# EAGLE library part VRE305 (library ICs)
Series Voltage Reference IC ±0.01% 10mA 8-DIP
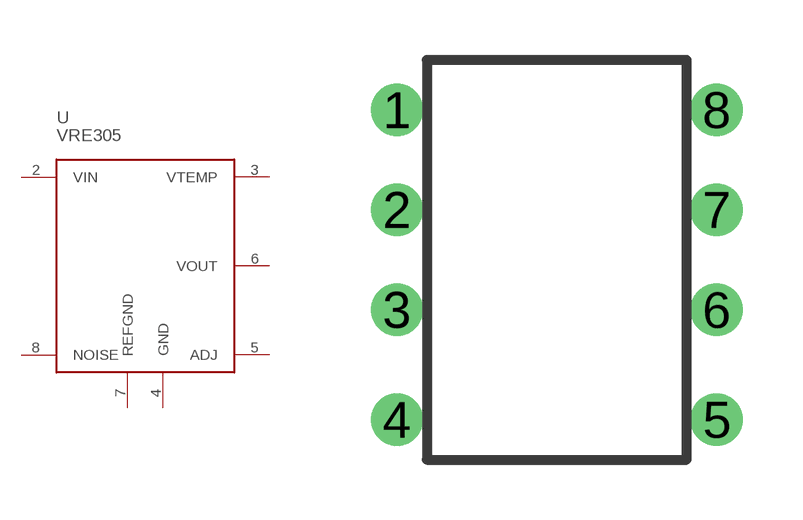
[diagram p224: symbol with the pads of DIP8; footprint DIP8]

Designator prefix U

## VRE305 (DIGIKEY: 598-1939-ND; HEIGHT: 3.5; PRICE_PER: 57.76; VALUE: VRE305)  [DIP8]
2  VIN
3  VTEMP
4  GND
5  ADJ
6  VOUT
7  REFGND
8  NOISE

## Footprint DIP8 (pad centres in mm)
drill 0.8: 1 -4,3.75; 2 -4,1.25; 3 -4,-1.25; 4 -4,-4; 5 4,-4; 6 4,-1.25; 7 4,1.25; 8 4,3.75